# Altium schematic symbol library Digipots.SchLib: 1 symbol
Pins are listed as number, name and electrical type; pins without a type are passive.

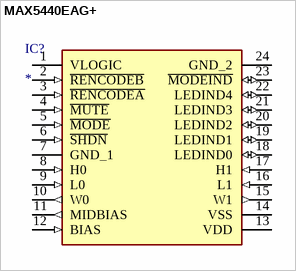
[diagram p0: symbol MAX5440EAG+]

## MAX5440EAG+
designator IC?
Integrated Circuit; Manufacturer_Name: Maxim Integrated; Manufacturer_Part_Number: MAX5440EAG+; Description: MAXIM INTEGRATED PRODUCTS - MAX5440EAG+ - STEREO VOLUME CTRL; Datasheet Link: https://datasheets.maximintegrated.com/en/ds/MAX5440.pdf; Height: 1.99mm
footprint SOP65P778X199-24N
pins: 1 VLOGIC (power), 2 ~{RENCODEB} (in), 3 ~{RENCODEA} (in), 4 ~{MUTE} (in), 5 ~{MODE} (in), 6 ~{SHDN} (in), 7 GND_1 (power), 8 H0 (in), 9 L0 (in), 10 W0 (out), 11 MIDBIAS (out), 12 BIAS (in), 13 VDD (power), 14 VSS (power), 15 W1 (out), 16 L1 (in), 17 H1 (in), 18 LEDIND0 (io), 19 LEDIND1 (io), 20 LEDIND2 (io), 21 LEDIND3 (io), 22 LEDIND4 (io), 23 ~{MODEIND} (io), 24 GND_2 (power)